# Altium schematic symbol library EL-sense_Amplifier.SchLib: 1 symbol
Pins are listed as number, name and electrical type; pins without a type are passive.

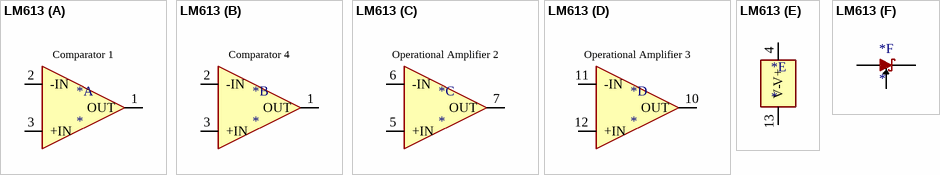
[diagram p0: symbol LM613]

## LM613
designator *
part A pins: 1 OUT, 2 -IN, 3 +IN
part B pins: 1 OUT, 2 -IN, 3 +IN
part C pins: 5 +IN, 6 -IN, 7 OUT
part D pins: 10 OUT, 11 -IN, 12 +IN
part E pins: 4 V+, 13 V-
part F pins: 8 Feedback, 9 C, 13 V-
part A text: Comparator 1
part B text: Comparator 4
part C text: Operational Amplifier 2
part D text: Operational Amplifier 3